# EAGLE library part LT3060 (library LTC3060)
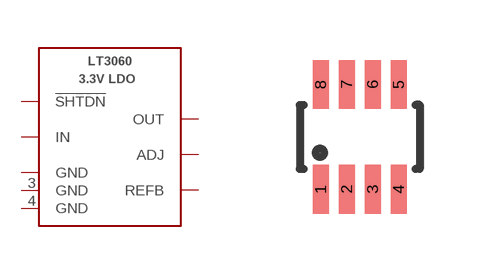
[diagram p0: symbol with the pads of TSOT-23-8; footprint TSOT-23-8]

Designator prefix -

## LT3060  [TSOT-23-8]
1  !SHTDN
2  GND
3  GND
4  GND
5  REFB
6  ADJ
7  OUT
8  IN

## Footprint TSOT-23-8 (pad centres in mm)
smd 0.4 x 1.22: 1 -0.975,-1.31; 2 -0.325,-1.31; 3 0.325,-1.31; 4 0.975,-1.31; 5 0.975,1.31; 6 0.325,1.31; 7 -0.325,1.31; 8 -0.975,1.31